# EAGLE library part FT4232H (library barthess)
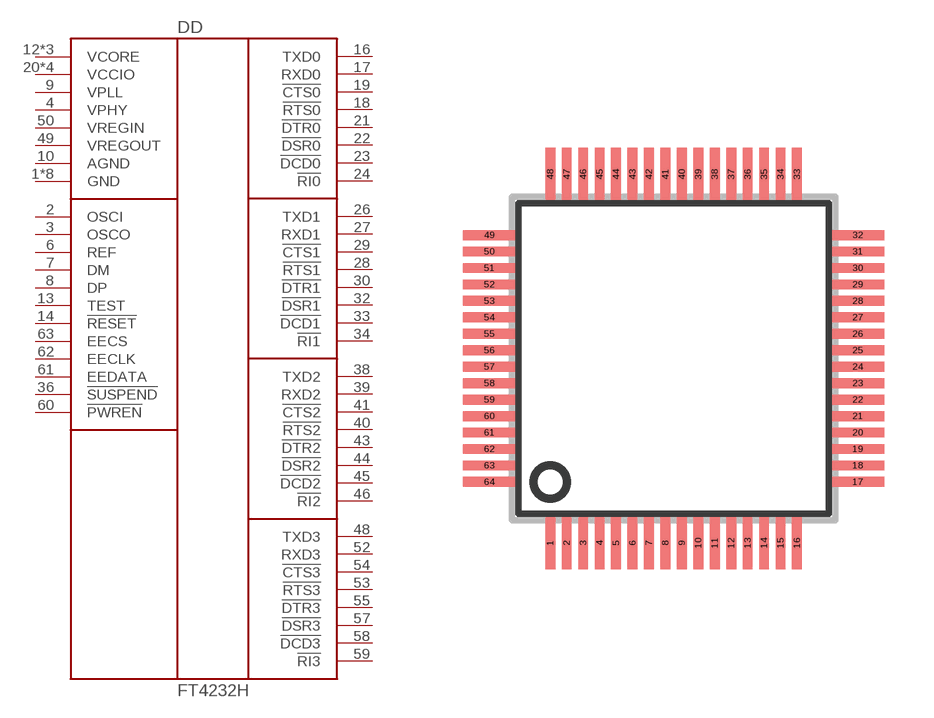
[diagram p41: symbol with the pads of SQFP-S-10X10-64; footprint SQFP-S-10X10-64]

Designator prefix DD

## FT4232HL  [SQFP-S-10X10-64]
1  GND  pwr
2  OSCI  in
3  OSCO  out
4  VPHY  pwr
5  GND  pwr
6  REF  in
7  DM
8  DP
9  VPLL  pwr
10  AGND  pwr
11  GND  pwr
12  VCORE  pwr
13  TEST  in
14  !RESET  in
15  GND  pwr
16  TXD0  out
17  RXD0  in
18  !RTS0  out
19  !CTS0  in
20  VCCIO  pwr
21  !DTR0
22  !DSR0
23  !DCD0
24  !RI0
25  GND  pwr
26  TXD1  out
27  RXD1  in
28  !RTS1  out
29  !CTS1  in
30  !DTR1
31  VCCIO  pwr
32  !DSR1
33  !DCD1
34  !RI1
35  GND  pwr
36  !SUSPEND  out
37  VCORE  pwr
38  TXD2  out
39  RXD2  in
40  !RTS2  out
41  !CTS2  in
42  VCCIO  pwr
43  !DTR2
44  !DSR2
45  !DCD2
46  !RI2
47  GND  pwr
48  TXD3  out
49  VREGOUT  pwr
50  VREGIN  pwr
51  GND  pwr
52  RXD3  in
53  !RTS3  out
54  !CTS3  in
55  !DTR3
56  VCCIO  pwr
57  !DSR3
58  !DCD3
59  !RI3
60  !PWREN  out
61  EEDATA
62  EECLK  out
63  EECS
64  VCORE  pwr

## Footprint SQFP-S-10X10-64 (pad centres in mm)
QFP64 shrink quad flat pack, square
smd 0.3 x 1.6: 1 -3.75,-5.6; 2 -3.25,-5.6; 3 -2.75,-5.6; 4 -2.25,-5.6; 5 -1.75,-5.6; 6 -1.25,-5.6; 7 -0.75,-5.6; 8 -0.25,-5.6; 9 0.25,-5.6; 10 0.75,-5.6; 11 1.25,-5.6; 12 1.75,-5.6; 13 2.25,-5.6; 14 2.75,-5.6; 15 3.25,-5.6; 16 3.75,-5.6; 33 3.75,5.6; 34 3.25,5.6; 35 2.75,5.6; 36 2.25,5.6; 37 1.75,5.6; 38 1.25,5.6; 39 0.75,5.6; 40 0.25,5.6; 41 -0.25,5.6; 42 -0.75,5.6; 43 -1.25,5.6; 44 -1.75,5.6; 45 -2.25,5.6; 46 -2.75,5.6; 47 -3.25,5.6; 48 -3.75,5.6
smd 1.6 x 0.3: 17 5.6,-3.75; 18 5.6,-3.25; 19 5.6,-2.75; 20 5.6,-2.25; 21 5.6,-1.75; 22 5.6,-1.25; 23 5.6,-0.75; 24 5.6,-0.25; 25 5.6,0.25; 26 5.6,0.75; 27 5.6,1.25; 28 5.6,1.75; 29 5.6,2.25; 30 5.6,2.75; 31 5.6,3.25; 32 5.6,3.75; 49 -5.6,3.75; 50 -5.6,3.25; 51 -5.6,2.75; 52 -5.6,2.25; 53 -5.6,1.75; 54 -5.6,1.25; 55 -5.6,0.75; 56 -5.6,0.25; 57 -5.6,-0.25; 58 -5.6,-0.75; 59 -5.6,-1.25; 60 -5.6,-1.75; 61 -5.6,-2.25; 62 -5.6,-2.75; 63 -5.6,-3.25; 64 -5.6,-3.75